# Altium footprint library pth-switch.PcbLib: 2 footprints
Each footprint in its own frame and in the unit in brackets; x right, y up, seen from the top. Pads: shape width x height; smd on the part's side, far side on the other; paste and mask are expansions set on the pad; w line width, h text height; cw(c..) or ccw(c..) is an arc to the next point about the centre after c.
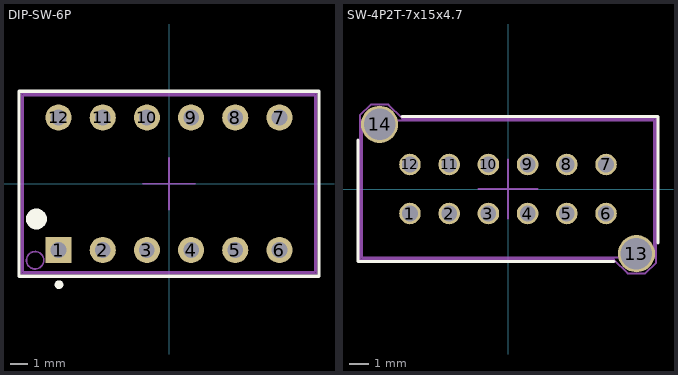
[diagram p0: the footprints below, top view; thin cyan lines are the x and y axes]

## DIP-SW-6P [mm] "DIP Switch; 6 Poles"
height 5.8
pads (12):
  rect 1.5x1.5 hole 0.9: 1(-6.35,-3.81)
  round 1.5 hole 0.9: 2(-3.81,-3.81) 3(-1.27,-3.81) 4(1.27,-3.81) 5(3.81,-3.81) 6(6.35,-3.81) 7(6.35,3.81) 8(3.81,3.81) 9(1.27,3.81) 10(-1.27,3.81) 11(-3.81,3.81) 12(-6.35,3.81)
Top Overlay:
  circle w0.25: c-6.325,-5.8 r0.125
  circle w0.6: c-7.625,-2.025 r0.3
  lines w0.2: -8.625,-5.325 -8.625,5.325 8.625,5.325 8.625,-5.325 -8.625,-5.325
Mechanical 13:
  circle w0.1: c-7.7,-4.4 r0.5
  lines w0.1: -8.375,-5.075 -8.375,5.075 8.375,5.075 8.375,-5.075 -8.375,-5.075
Mechanical 15:
  lines w0.1: -1.5,0 1.5,0 ; 0,-1.5 0,1.5 ; -8.475,-5.175 8.475,-5.175 8.475,5.175 -8.475,5.175 -8.475,-5.175
  text ".Designator" at 2.2,1.3 h0.5
3D body: height 6.9, standoff -3.2, extent -8.35,-5.15 8.41,5.01

## SW-4P2T-7x15x4.7 [mm] "Slide Switch, 4 Poles, 2 Positions"
height 10
pads (14):
  round 1.1 hole 0.8: 1(-5,-1.25) 2(-3,-1.25) 3(-1,-1.25) 4(1,-1.25) 5(3,-1.25) 6(5,-1.25) 7(5,1.25) 8(3,1.25) 9(1,1.25) 10(-1,1.25) 11(-3,1.25) 12(-5,1.25)
  round 1.9 hole 1.6: 13(6.55,-3.3) 14(-6.55,3.3)
Top Overlay:
  lines w0.16: -7.65,2.5 -7.65,-3.7 5.4,-3.7 ; -5.4,3.7 7.65,3.7 7.65,-2.75
Mechanical 13:
  lines w0.1: -7.45,-3.5 7.45,-3.5 7.45,3.5 -7.45,3.5 -7.45,-3.5
Mechanical 15:
  lines w0.1: -1.5,0 1.5,0 ; 0,-1.5 0,1.5 ; -7.55,-3.6 -7.55,3.75 -7,4.3 -6.1,4.3 -5.4,3.6 3.075,3.6 7.55,3.6 7.55,-3.75 7,-4.3 6.1,-4.3 5.4,-3.6 -3.075,-3.6 -7.55,-3.6
  text ".Designator" at -2.5,2.5 h0.5
3D body: height 8, standoff -2.7, extent -7.45,-3.5 7.45,3.5